# Altium footprint library SMD ZENER DIODE DIODES INC.PcbLib: 1 footprints
Each footprint in its own frame and in the unit in brackets; x right, y up, seen from the top. Pads: shape width x height; smd on the part's side, far side on the other; paste and mask are expansions set on the pad; w line width, h text height; cw(c..) or ccw(c..) is an arc to the next point about the centre after c.
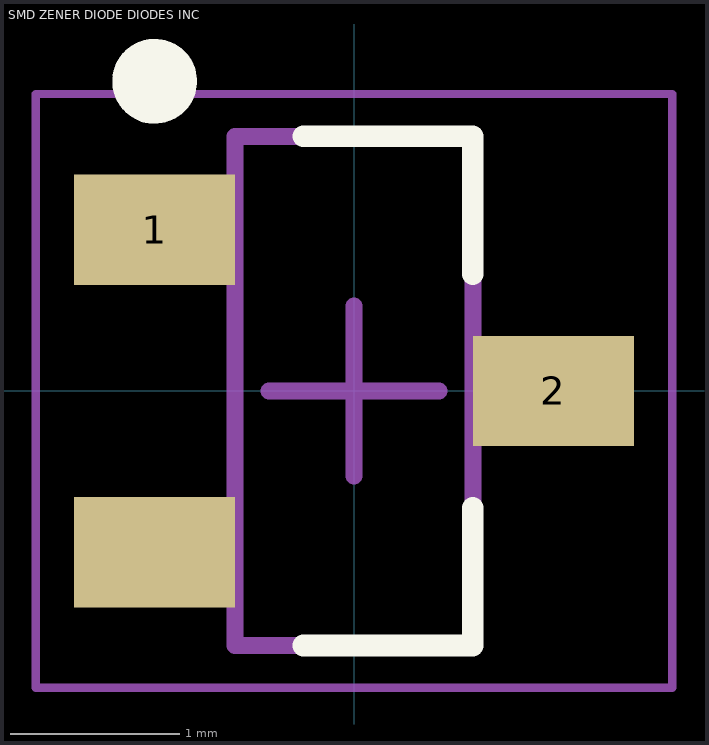
[diagram p0: the footprint, top view; thin cyan lines are the x and y axes]

## SMD ZENER DIODE DIODES INC [mm]
height 1.2
pads (3):
  rect 0.95x0.65 smd: 1(-1.175,0.95) 2(1.175,0) ""(-1.175,-0.95)
Top Overlay:
  circle w0.25: c-1.175,1.825 r0.125
  lines w0.127: -0.3,-1.5 0.7,-1.5 0.7,-0.689 ; -0.3,1.5 0.7,1.5 0.7,0.689
Mechanical 13:
  lines w0.1: -0.7,-1.5 0.7,-1.5 0.7,1.5 -0.7,1.5 -0.7,-1.5
Mechanical 15:
  lines w0.05: -1.875,-1.75 1.875,-1.75 1.875,1.75 -1.875,1.75 -1.875,-1.75
  lines w0.1: -0.5,0 0.5,0 ; 0,-0.5 0,0.5
3D body "SMD ZENER DIODE DIODES INC.step": height 1.2, standoff 0, extent -1.25,-1.5 1.25,1.5